# Altium footprint library TBJ BC-547.PcbLib: 1 footprints
Each footprint in its own frame and in the unit in brackets; x right, y up, seen from the top. Pads: shape width x height; smd on the part's side, far side on the other; paste and mask are expansions set on the pad; w line width, h text height; cw(c..) or ccw(c..) is an arc to the next point about the centre after c.
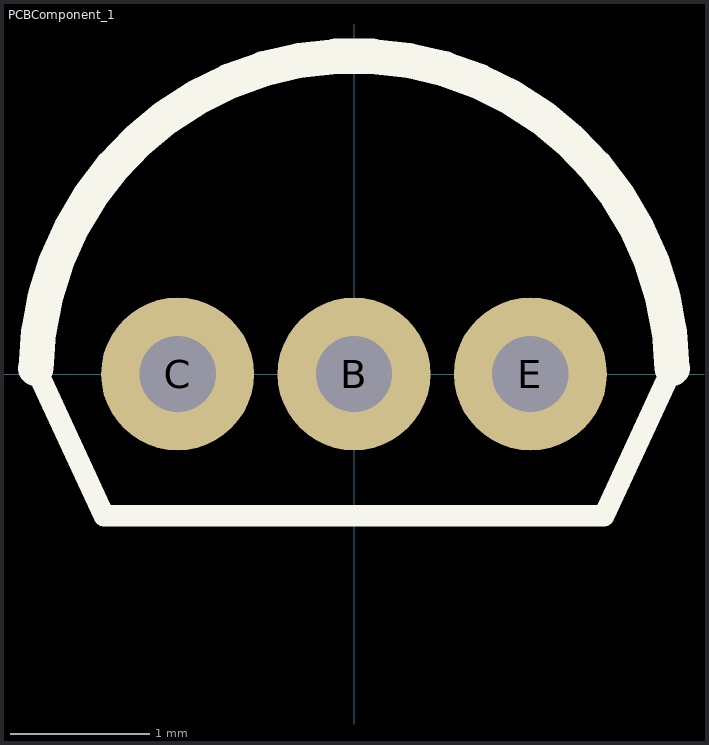
[diagram p0: the footprint, top view; thin cyan lines are the x and y axes]

## PCBComponent_1 [mm]
pads (3):
  round 1.1 hole 0.55: B(0,0) C(-1.27,0) E(1.27,0)
Top Overlay:
  lines w0.152: -2.29,0.041 -1.8,-1.02 1.8,-1.02 2.29,0.041
  lines w0.254: -2.29,0.041 cw(c0,0) 2.29,0.041
3D body: height 1.88, standoff -1.88, extent -2.013,-0.559 -1.91,-0.559
3D body "User Library-Transistors  BC547 NPN TO92.step": height 6.2, standoff -6, extent -2.297,-1.305 2.297,2.3